# Altium footprint library MF-05W_RESAD1400W60L1000D500.PcbLib: 1 footprints
Each footprint in its own frame and in the unit in brackets; x right, y up, seen from the top. Pads: shape width x height; smd on the part's side, far side on the other; paste and mask are expansions set on the pad; w line width, h text height; cw(c..) or ccw(c..) is an arc to the next point about the centre after c.
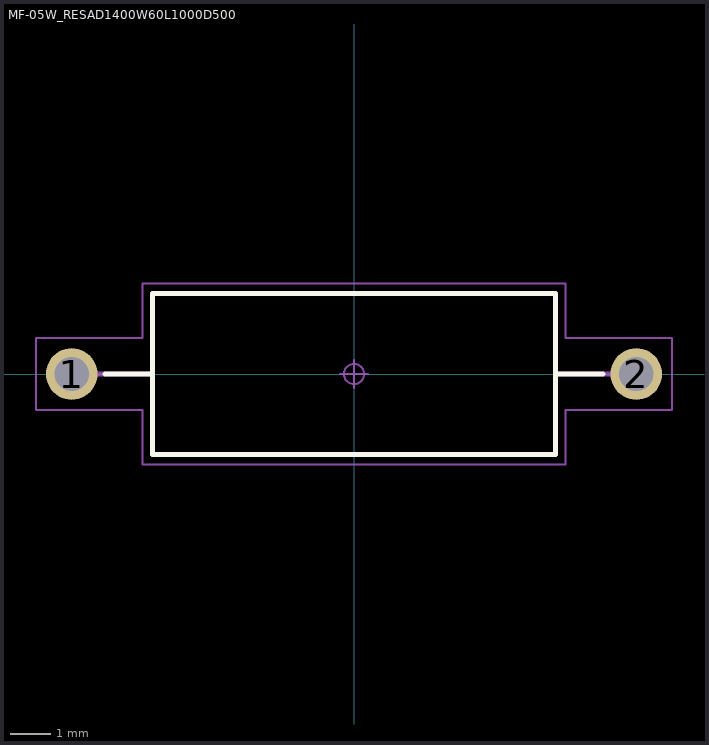
[diagram p0: the footprint, top view; thin cyan lines are the x and y axes]

## MF-05W_RESAD1400W60L1000D500 [mm] "Resistor, Axial; 14.00 mm Pitch X 0.60 mm W 10.00 mm L X 5.00 mm Dia. body"
height 5
pads (2):
  round 1.28 hole 0.85 paste-2539.97: 1(-7,0) 2(7,0)
Top Overlay:
  lines w0.12: -6.18,0 -5,0 ; 5,0 6.18,0 ; -5,-2 5,-2 5,2 -5,2 -5,-2
Mechanical 11:
  lines w0.12: -7,0 -5,0 ; 5,0 7,0 ; -5,-2 5,-2 5,2 -5,2 -5,-2
Mechanical 12:
  circle w0.025: c7,0 r0.315
  circle w0.025: c-7,0 r0.315
  lines w0.025: -5,-2 5,-2 5,2 -5,2 -5,-2
Mechanical 15:
  circle w0.05: c0,0 r0.25
  lines w0.05: -0.35,0 0.35,0 ; 0,-0.35 0,0.35 ; -7.89,-0.89 -5.25,-0.89 -5.25,-2.25 5.25,-2.25 5.25,-0.89 7.89,-0.89 7.89,0.89 5.25,0.89 5.25,2.25 -5.25,2.25 -5.25,0.89 -7.89,0.89 -7.89,-0.89
Mechanical 16:
  text ".Designator" at 0,0 h1.2
3D body "MF-05W_RESAD1400W60L1000D500.STEP": height 5, standoff -2, extent -7.3,-1.995 7.3,1.995